# EAGLE library part 177827-72 (library con-amp)
M III Socked 177827.pdf
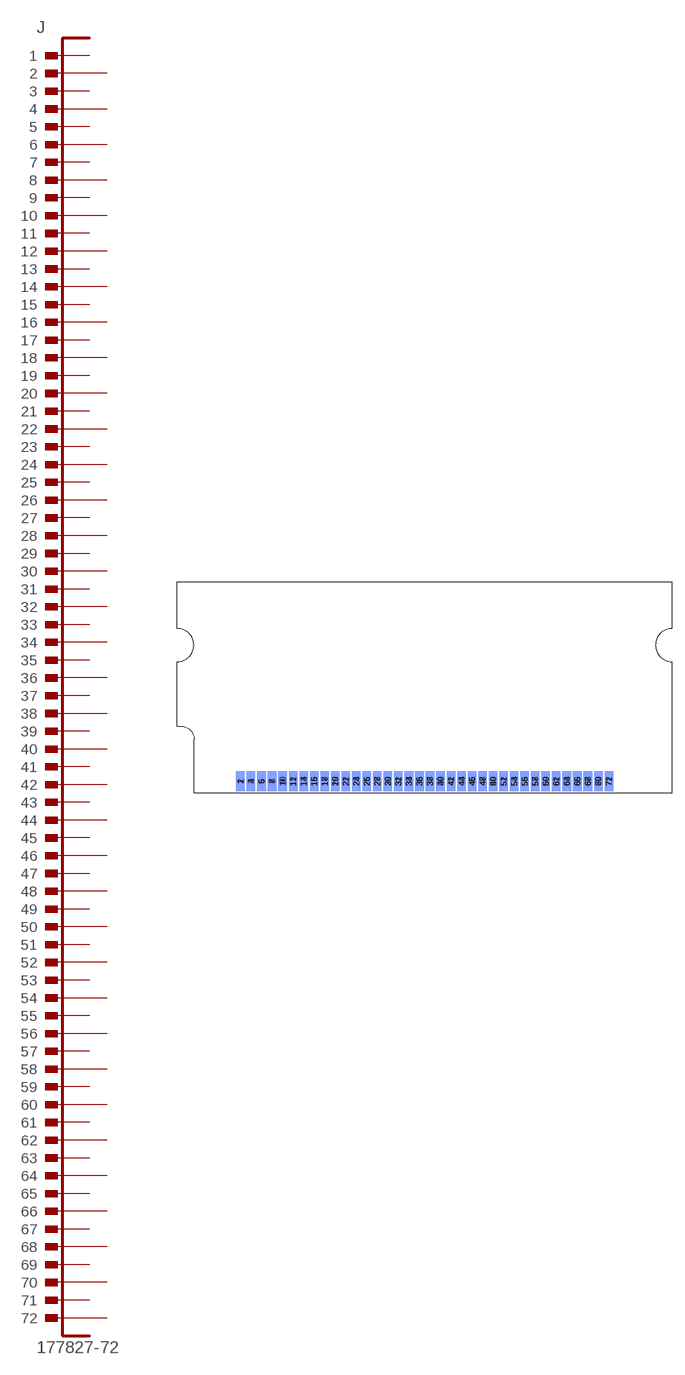
[diagram p126: symbol with the pads of 177827-72; footprint 177827-72]

Designator prefix J

## 177827-72  [177827-72]
1  1  pas
2  2  pas
3  3  pas
4  4  pas
5  5  pas
6  6  pas
7  7  pas
8  8  pas
9  9  pas
10  10  pas
11  11  pas
12  12  pas
13  13  pas
14  14  pas
15  15  pas
16  16  pas
17  17  pas
18  18  pas
19  19  pas
20  20  pas
21  21  pas
22  22  pas
23  23  pas
24  24  pas
25  25  pas
26  26  pas
27  27  pas
28  28  pas
29  29  pas
30  30  pas
31  31  pas
32  32  pas
33  33  pas
34  34  pas
35  35  pas
36  36  pas
37  37  pas
38  38  pas
39  39  pas
40  40  pas
41  41  pas
42  42  pas
43  43  pas
44  44  pas
45  45  pas
46  46  pas
47  47  pas
48  48  pas
49  49  pas
50  50  pas
51  51  pas
52  52  pas
53  53  pas
54  54  pas
55  55  pas
56  56  pas
57  57  pas
58  58  pas
59  59  pas
60  60  pas
61  61  pas
62  62  pas
63  63  pas
64  64  pas
65  65  pas
66  66  pas
67  67  pas
68  68  pas
69  69  pas
70  70  pas
71  71  pas
72  72  pas

## Footprint 177827-72 (pad centres in mm)
SIMM Modul 177827-72 177827-72.pdf
smd 1.04 x 2.4: 1 -22.225,1.35; 3 -20.955,1.35; 5 -19.685,1.35; 7 -18.415,1.35; 9 -17.145,1.35; 11 -15.875,1.35; 13 -14.605,1.35; 15 -13.335,1.35; 17 -12.065,1.35; 19 -10.795,1.35; 21 -9.525,1.35; 23 -8.255,1.35; 25 -6.985,1.35; 27 -5.715,1.35; 29 -4.445,1.35; 31 -3.175,1.35; 33 -1.905,1.35; 35 -0.635,1.35; 37 0.635,1.35; 39 1.905,1.35; 41 3.175,1.35; 43 4.445,1.35; 45 5.715,1.35; 47 6.985,1.35; 49 8.255,1.35; 51 9.525,1.35; 53 10.795,1.35; 55 12.065,1.35; 57 13.335,1.35; 59 14.605,1.35; 61 15.875,1.35; 63 17.145,1.35; 65 18.415,1.35; 67 19.685,1.35; 69 20.955,1.35; 71 22.225,1.35
smd 1.04 x 2.4 bottom: 2 -22.225,1.35; 4 -20.955,1.35; 6 -19.685,1.35; 8 -18.415,1.35; 10 -17.145,1.35; 12 -15.875,1.35; 14 -14.605,1.35; 16 -13.335,1.35; 18 -12.065,1.35; 20 -10.795,1.35; 22 -9.525,1.35; 24 -8.255,1.35; 26 -6.985,1.35; 28 -5.715,1.35; 30 -4.445,1.35; 32 -3.175,1.35; 34 -1.905,1.35; 36 -0.635,1.35; 38 0.635,1.35; 40 1.905,1.35; 42 3.175,1.35; 44 4.445,1.35; 46 5.715,1.35; 48 6.985,1.35; 50 8.255,1.35; 52 9.525,1.35; 54 10.795,1.35; 56 12.065,1.35; 58 13.335,1.35; 60 14.605,1.35; 62 15.875,1.35; 64 17.145,1.35; 66 18.415,1.35; 68 19.685,1.35; 70 20.955,1.35; 72 22.225,1.35